# Altium footprint library TIDA-PowerNBIoT_PCB.PcbLib: 30 footprints (part 2 of 2)
Each footprint in its own frame and in the unit in brackets; x right, y up, seen from the top. Pads: shape width x height; smd on the part's side, far side on the other; paste and mask are expansions set on the pad; w line width, h text height; cw(c..) or ccw(c..) is an arc to the next point about the centre after c.
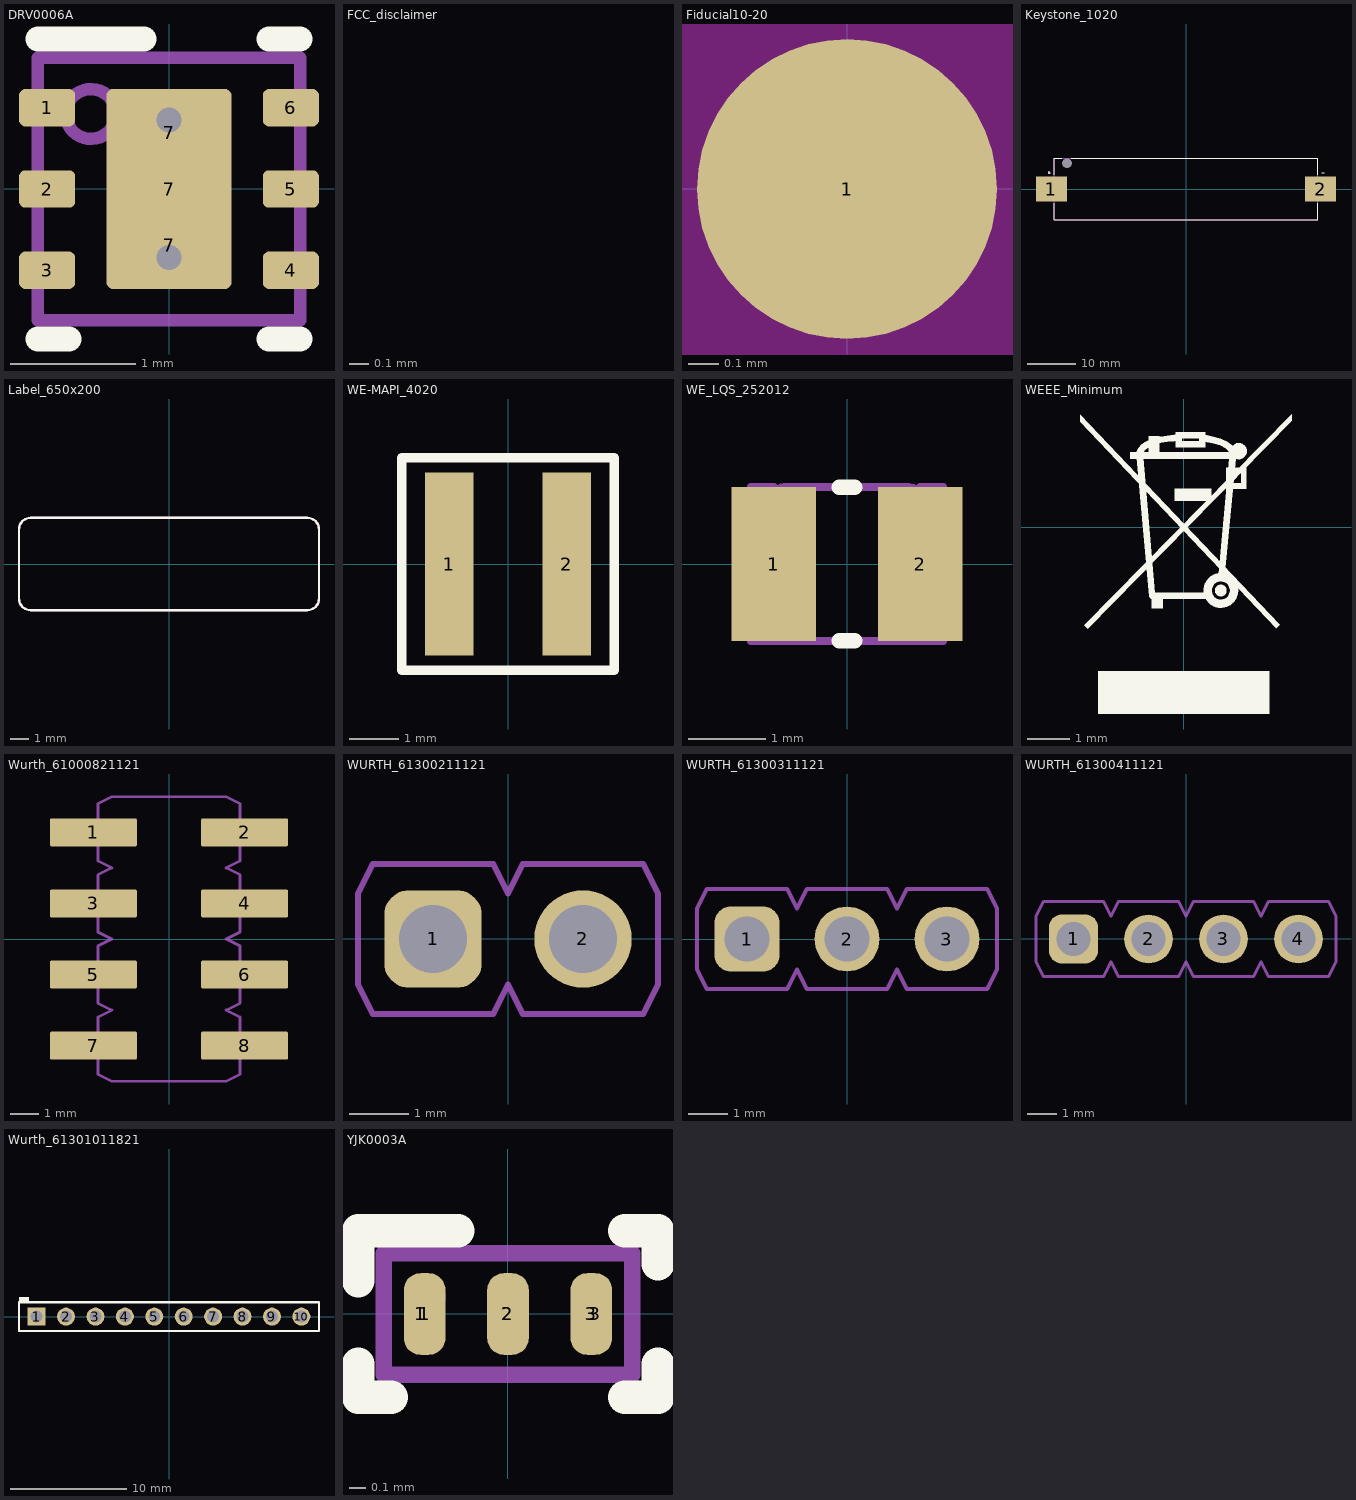
[diagram p1: the footprints below, top view; thin cyan lines are the x and y axes]

## DRV0006A [mm]
pads (9):
  rrect33% 0.45x0.3 smd: 1(-0.975,0.65) 2(-0.975,0) 3(-0.975,-0.65) 4(0.975,-0.65) 5(0.975,0) 6(0.975,0.65)
  rrect50% 1x0.7 on Top Paste: 7(0,-0.45) 7(0,0.45)
  rrect10% 1x1.6 smd paste-0.5: 7(0,0)
via 0,-0.55 diameter 0.5 hole 0.2
via 0,0.55 diameter 0.5 hole 0.2
Top Overlay:
  lines w0.2: -1.05,-1.2 -0.8,-1.2 ; -1.05,1.2 -0.2,1.2 ; 0.8,-1.2 1.05,-1.2 ; 0.8,1.2 1.05,1.2
Mechanical 5:
  circle w0.1: c-0.625,0.6 r0.2
  lines w0.1: -1.05,-1.05 1.05,-1.05 1.05,1.05 -1.05,1.05 -1.05,-1.05
  text ".Designator" at -7.62,1.994 h0.51
3D body: height 0.8, standoff 0, extent -1.05,-1.05 1.05,1.05
3D body: height 0.81, standoff 0.5, extent -0.824,0.401 -0.426,0.799

## FCC_disclaimer [mm]
Top Overlay:
  text "For evaluation only; not FCC approved for resale." at 13.462,-43.434 h1.52

## Fiducial10-20 [mm]
pads (1):
  round 1 smd mask+0.5: 1(0,0)
Top Layer keep-out:
  circle w1.178: c0,0 r0.5

## Keystone_1020 [mm]
pads (3):
  rect 6.35x5.08 smd: 1(-27.57,0) 2(27.57,0)
  rect 0x0 hole 1.98 unplated: ALIGN(-24.395,5.31)
Top Overlay:
  lines w0.2: -28.275,3.375 -27.775,3.375 ; -28.025,3.125 -28.025,3.625 ; -27.03,-2.9 -27.03,-6.35 27.03,-6.35 27.03,-2.9 ; -27.03,2.9 -27.03,6.35 -25.5,6.35 ; -23.5,6.35 27.03,6.35 27.03,2.9 ; 27.875,3.3 28.375,3.3
Mechanical 5:
  lines w0.1: -27.03,-6.35 27.03,-6.35 27.03,6.35 -27.03,6.35 -27.03,-6.35
  lines w0.2: -28.275,3.375 -27.775,3.375 ; -28.025,3.125 -28.025,3.625
  text ".Designator" at -2,-0.7 h1.85
3D body "keystone-PN1020.stp": height 11.27, standoff -1.17, extent -30.76,-6.35 30.753,6.35

## Label_650x200 [mil]
pads (1):
  round 1 on Mech13: 0(0,0)
Top Overlay:
  lines w5: -325,-75 ccw(c-300,-75) -300,-100 300,-100 ccw(c300,-75) 325,-75 325,75 ccw(c300,75) 300,100 -300,100 ccw(c-300,75) -325,75 -325,-75
Mechanical 5:
  lines w5: -325,-75 ccw(c-300,-75) -300,-100 300,-100 ccw(c300,-75) 325,-75 325,75 ccw(c300,75) 300,100 -300,100 ccw(c-300,75) -325,75 -325,-75
  text ".Designator" at -60,-20 h40
3D body: height 1, standoff 0, extent -325.02,-100.02 325.02,100.02

## WE-MAPI_4020 [mm]
pads (2):
  rect 0.98x3.7 smd: 1(-1.185,0) 2(1.185,0)
Top Overlay:
  lines w0.2: -2.15,-2.15 2.15,-2.15 2.15,2.15 -2.15,2.15 -2.15,-2.15
Mechanical 5:
  lines w0.1: -2.15,-2.15 -2.15,2.15 2.15,2.15 2.15,-2.15 -2.15,-2.15
  text ".Designator" at -1.524,-0.508 h1.02
3D body: height 2.1, standoff 0, extent -2.149,-2.149 2.149,2.149

## WE_LQS_252012 [mm]
pads (2):
  rect 1.1x2 smd: 1(-0.95,0) 2(0.95,0)
Top Overlay:
  lines w0.2: -0.1,-1 0.1,-1 ; -0.1,1 0.1,1
Mechanical 5:
  drawing of 172 lines, arcs and shapes, not listed
  text ".Designator" at -1,-0.1 h0.5
3D body "WE-LQS_252012.stp": height 1.2, standoff 0, extent -1.25,-1 1.25,1

## WEEE_Minimum [mm]
Top Overlay:
  drawing of 23 lines, arcs and shapes, not listed

## Wurth_61000821121 [mm]
pads (8):
  rrect10% 3.1x1 smd: 1(-2.7,3.81) 2(2.7,3.81) 3(-2.7,1.27) 4(2.7,1.27) 5(-2.7,-1.27) 6(2.7,-1.27) 7(-2.7,-3.81) 8(2.7,-3.81)
Mechanical 5:
  lines w0.1: -2.54,-4.13 -3.55,-4.13 ; -2.54,-3.49 -3.55,-3.49 ; -2.54,-1.59 -3.55,-1.59 ; -2.54,-0.95 -3.55,-0.95 ; -2.54,0.95 -3.55,0.95 ; -2.54,1.59 -3.55,1.59 ; -2.54,3.49 -3.55,3.49 ; -2.54,4.13 -3.55,4.13 ; 2.54,-4.13 3.55,-4.13 ; 2.54,-3.49 3.55,-3.49 ; 2.54,-1.59 3.55,-1.59 ; 2.54,-0.95 3.55,-0.95 ; 2.54,0.95 3.55,0.95 ; 2.54,1.59 3.55,1.59 ; 2.54,3.49 3.55,3.49 ; 2.54,4.13 3.55,4.13 ; -3.55,-4.13 -3.75,-3.93 -3.75,-3.69 -3.55,-3.49 ; -3.55,-4.13 -3.55,-3.49 ; -3.55,-1.59 -3.75,-1.39 -3.75,-1.15 -3.55,-0.95 ; -3.55,-1.59 -3.55,-0.95 ; -3.55,0.95 -3.75,1.15 -3.75,1.39 -3.55,1.59 ; -3.55,0.95 -3.55,1.59 ; -3.55,3.49 -3.75,3.69 -3.75,3.93 -3.55,4.13 ; -3.55,3.49 -3.55,4.13 ; 3.55,-4.13 3.75,-3.93 3.75,-3.69 3.55,-3.49 ; 3.55,-4.13 3.55,-3.49 ; 3.55,-1.59 3.75,-1.39 3.75,-1.15 3.55,-0.95 ; 3.55,-1.59 3.55,-0.95 ; 3.55,0.95 3.75,1.15 3.75,1.39 3.55,1.59 ; 3.55,0.95 3.55,1.59 ; 3.55,3.49 3.75,3.69 3.75,3.93 3.55,4.13 ; 3.55,3.49 3.55,4.13 ; -2.54,-4.83 -2.54,-2.79 -2.04,-2.54 -2.54,-2.29 -2.54,-0.25 -2.04,0 -2.54,0.25 -2.54,2.29 -2.04,2.54 -2.54,2.79 -2.54,4.83 -2.04,5.08 2.04,5.08 2.54,4.83 2.54,2.79 2.04,2.54 2.54,2.29 2.54,0.25 2.04,0 2.54,-0.25 2.54,-2.29 2.04,-2.54 2.54,-2.79 2.54,-4.83 2.04,-5.08 -2.04,-5.08 -2.54,-4.83
  text ".Designator" at -0.8,-0.2 h0.5
3D body "61000821121.stp": height 9.6, standoff 0, extent -3.75,-5.08 3.75,5.08

## WURTH_61300211121 [mm]
pads (2):
  rrect50% 1.65x1.65 hole 1.15: 1(-1.27,0)
  round 1.65 hole 1.15: 2(1.27,0)
Mechanical 5:
  lines w0.1: -2.54,-0.77 -2.29,-1.27 -0.25,-1.27 0,-0.77 0.25,-1.27 2.29,-1.27 2.54,-0.77 2.54,0.77 2.29,1.27 0.25,1.27 0,0.77 -0.25,1.27 -2.29,1.27 -2.54,0.77 -2.54,-0.77
  text ".Designator" at -1.524,-0.508 h1.02
3D body "61300211121.stp": height 8.54, standoff -3, extent -2.54,-1.27 2.54,1.27

## WURTH_61300311121 [mm]
pads (3):
  rrect50% 1.65x1.65 hole 1.15: 1(-2.54,0)
  round 1.65 hole 1.15: 2(0,0) 3(2.54,0)
Mechanical 5:
  lines w0.1: -3.81,-0.77 -3.81,0.77 -3.56,1.27 -1.52,1.27 -1.27,0.77 -1.02,1.27 1.02,1.27 1.27,0.77 1.52,1.27 3.56,1.27 3.81,0.77 3.81,-0.77 3.56,-1.27 1.52,-1.27 1.27,-0.77 1.02,-1.27 -1.02,-1.27 -1.27,-0.77 -1.52,-1.27 -3.56,-1.27 -3.81,-0.77
  text ".Designator" at -1.117,-0.6 h1.02
3D body "61300311121.stp": height 8.54, standoff -3, extent -3.81,-1.27 3.81,1.27

## WURTH_61300411121 [mm]
pads (4):
  rrect50% 1.65x1.65 hole 1.15: 1(-3.81,0)
  round 1.65 hole 1.15: 2(-1.27,0) 3(1.27,0) 4(3.81,0)
Mechanical 5:
  lines w0.1: -5.08,-0.77 -5.08,0.77 -4.83,1.27 -2.79,1.27 -2.54,0.77 -2.29,1.27 -0.25,1.27 0,0.77 0.25,1.27 2.29,1.27 2.54,0.77 2.79,1.27 4.83,1.27 5.08,0.77 5.08,-0.77 4.83,-1.27 2.79,-1.27 2.54,-0.77 2.29,-1.27 0.25,-1.27 0,-0.77 -0.25,-1.27 -2.29,-1.27 -2.54,-0.77 -2.79,-1.27 -4.83,-1.27 -5.08,-0.77
  text ".Designator" at -1.524,-0.508 h1.02
3D body "61300411121.stp": height 8.54, standoff -3, extent -5.08,-1.27 5.08,1.27

## Wurth_61301011821 [mm]
pads (10):
  rect 1.55x1.55 hole 1.02: 1(-11.43,0)
  round 1.55 hole 1.02: 2(-8.89,0) 3(-6.35,0) 4(-3.81,0) 5(-1.27,0) 6(1.27,0) 7(3.81,0) 8(6.35,0) 9(8.89,0) 10(11.43,0)
Top Overlay:
  rectangle: -12.95,1.25 -12.1,1.7
  lines w0.2: -12.95,-1.25 -12.95,1.25 12.95,1.25 12.95,-1.25 -12.95,-1.25
Mechanical 5:
  lines w0.1: -12.95,-1.25 12.95,-1.25 12.95,1.25 -12.95,1.25 -12.95,-1.25
  text ".Designator" at -3.9,-0.4 h1.02
3D body "61301011821.stp": height 8.5, standoff -3.1, extent -12.95,-1.25 12.95,1.25

## YJK0003A [mm]
pads (6):
  rrect50% 0.2x0.39 on Top Paste: 1(-0.525,0) 2(0,0) 3(0.525,0)
  rrect80% 0.25x0.49 smd paste-0.15 mask-0.05: 1(-0.5,0) 2(0,0) 3(0.5,0)
Top Overlay:
  lines w0.2: -0.9,-0.3 -0.9,-0.5 -0.7,-0.5 ; -0.9,0.2 -0.9,0.5 -0.3,0.5 ; 0.7,-0.5 0.9,-0.5 0.9,-0.3 ; 0.7,0.5 0.9,0.5 0.9,0.3
Mechanical 5:
  circle w0.05: c-0.5,0.1 r0.1
  lines w0.1: -0.745,-0.365 -0.745,0.365 0.745,0.365 0.745,-0.365 -0.745,-0.365
  text ".Designator" at -0.4,-0.2 h0.5
3D body: height 0.35, standoff 0.35, extent -0.599,0.001 -0.401,0.199
3D body "YJK0003A.stp": height 0.35, standoff 0, extent -0.745,-0.365 0.745,0.365